# Altium footprint library Resistor^Capacitor^Inductor.PcbLib: 27 footprints (part 2 of 2)
Each footprint in its own frame and in the unit in brackets; x right, y up, seen from the top. Pads: shape width x height; smd on the part's side, far side on the other; paste and mask are expansions set on the pad; w line width, h text height; cw(c..) or ccw(c..) is an arc to the next point about the centre after c.
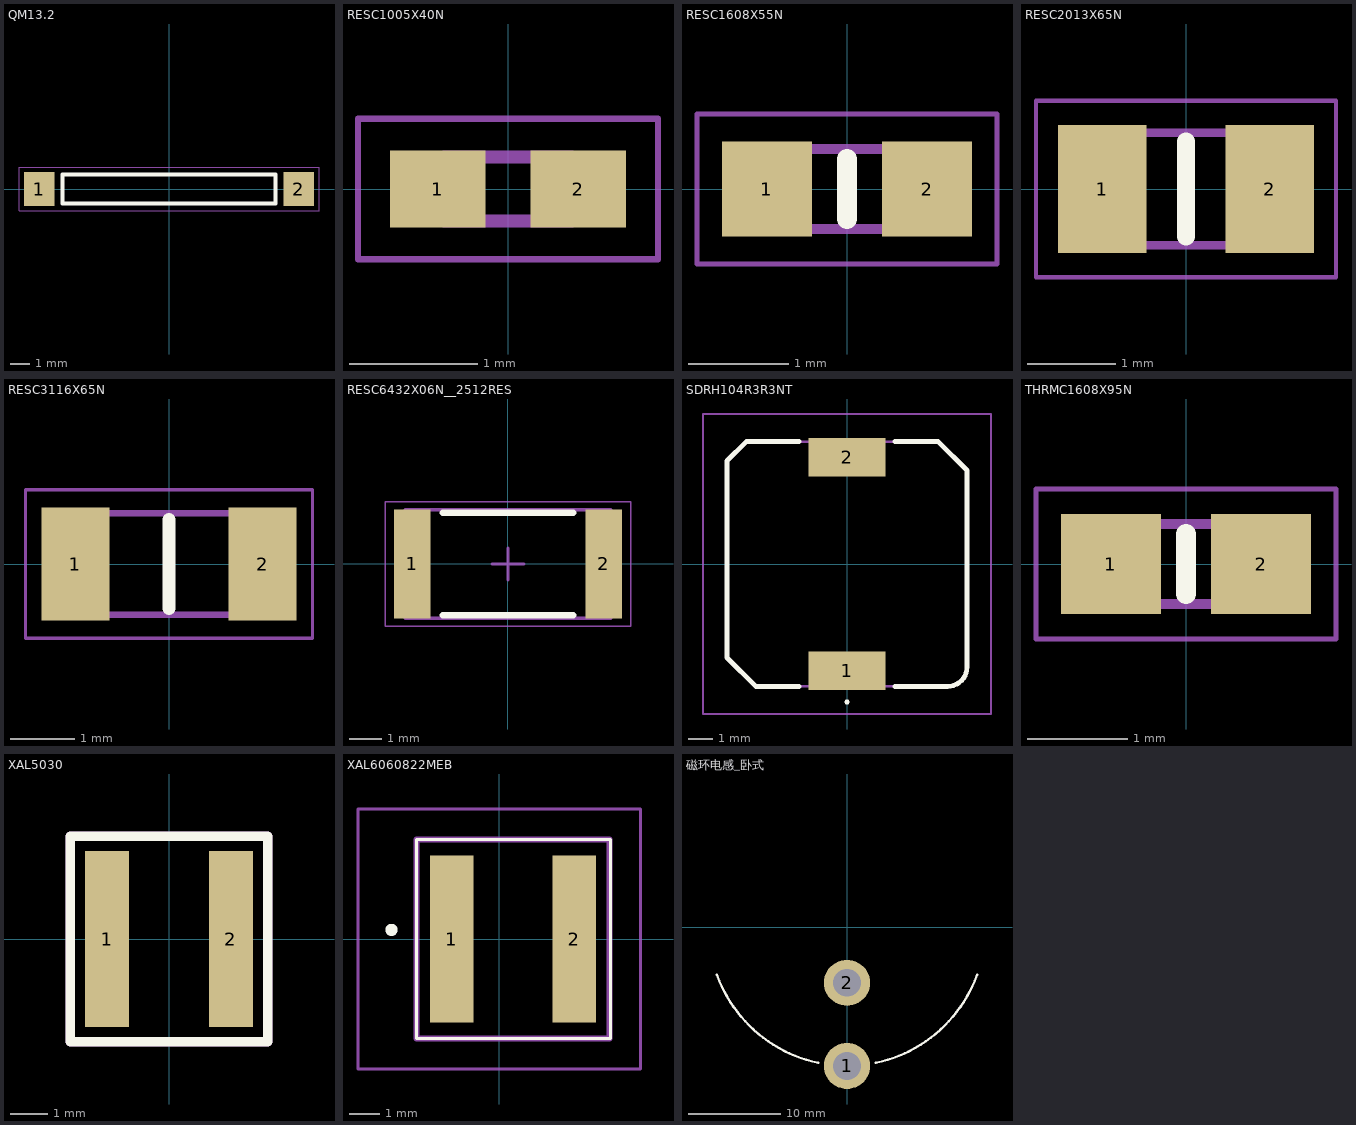
[diagram p1: the footprints below, top view; thin cyan lines are the x and y axes]

## QM13.2 [mm]
pads (2):
  rect 1.6x1.8 smd: 1(-6.8,0) 2(6.8,0)
Top Overlay:
  lines w0.203: -5.588,-0.762 -5.588,0.762 5.588,0.762 5.588,-0.762 -5.588,-0.762
Mechanical 15:
  lines w0.05: -7.874,-1.143 7.874,-1.143 7.874,1.143 -7.874,1.143 -7.874,-1.143

## RESC1005X40N [mm]
pads (2):
  rect 0.75x0.6 smd: 1(-0.55,0) 2(0.55,0)
Mechanical 13:
  lines w0.1: -0.5,-0.25 0.5,-0.25 0.5,0.25 -0.5,0.25 -0.5,-0.25
Mechanical 15:
  lines w0.05: -1.175,-0.55 1.175,-0.55 1.175,0.55 -1.175,0.55 -1.175,-0.55
3D body "0402WGF1002TCE.stp": height 0.4, standoff 0, extent -0.5,-0.25 0.5,0.25

## RESC1608X55N [mm]
pads (2):
  rect 0.9x0.95 smd: 1(-0.8,0) 2(0.8,0)
Top Overlay:
  lines w0.2: 0,-0.3 0,0.3
Mechanical 13:
  lines w0.1: -0.8,-0.4 -0.8,0.4 0.8,0.4 0.8,-0.4 -0.8,-0.4
Mechanical 15:
  lines w0.05: -1.5,-0.75 -1.5,0.75 1.5,0.75 1.5,-0.75 -1.5,-0.75
3D body "0603WAF1002T5E.stp": height 0.55, standoff 0, extent -0.8,-0.4 0.8,0.4

## RESC2013X65N [mm]
pads (2):
  rect 1x1.45 smd: 1(-0.95,0) 2(0.95,0)
Top Overlay:
  lines w0.2: 0,-0.538 0,0.538
Mechanical 13:
  lines w0.1: -1,-0.638 -1,0.638 1,0.638 1,-0.638 -1,-0.638
Mechanical 15:
  lines w0.05: -1.7,-1 -1.7,1 1.7,1 1.7,-1 -1.7,-1
3D body "0805W8J0103T5E.stp": height 0.31, standoff -0.28, extent -1,-0.625 1,0.625

## RESC3116X65N [mm]
pads (2):
  rect 1.05x1.75 smd: 1(-1.45,0) 2(1.45,0)
Top Overlay:
  lines w0.2: 0,-0.688 0,0.688
Mechanical 13:
  lines w0.1: -1.55,-0.788 -1.55,0.788 1.55,0.788 1.55,-0.788 -1.55,-0.788
Mechanical 15:
  lines w0.05: -2.225,-1.15 -2.225,1.15 2.225,1.15 2.225,-1.15 -2.225,-1.15
3D body "1206W4F1002T5E.stp": height 0.65, standoff 0, extent -1.55,-0.787 1.55,0.787

## RESC6432X06N__2512RES [mm] "Chip Resistor, 2-Leads, Body 6.35x3.20mm, IPC Medium Density"
height 0.55
pads (2):
  rect 1.15x3.4 smd: 1(-3,0) 2(3,0)
Top Overlay:
  lines w0.2: -2.05,-1.6 2.05,-1.6 ; -2.05,1.6 2.05,1.6
Mechanical 13:
  lines w0.1: -3.225,-1.7 -3.225,1.7 3.225,1.7 3.225,-1.7 -3.225,-1.7
Mechanical 15:
  lines w0.05: -3.85,-1.95 -3.85,1.95 3.85,1.95 3.85,-1.95 -3.85,-1.95
  lines w0.1: -0.5,0 0.5,0 ; 0,-0.5 0,0.5
3D body "rsmd-2512_l6-4_w3-2_h1-1.stp": height 1.1, standoff 0, extent -3.2,-1.6 3.2,1.6

## SDRH104R3R3NT [mm]
pads (2):
  rect 3.2x1.6 smd: 1(0,-4.45) 2(0,4.45)
Top Overlay:
  lines w0.1: 0,-5.8 ccw(c0,-5.75) 0,-5.7 ccw(c0,-5.75) 0,-5.8
  lines w0.2: -2,-5.1 -3.8,-5.1 -5,-3.9 -5,4.3 -4.2,5.1 -2,5.1 ; 2,-5.1 4.2,-5.1 ccw(c4.2,-4.3) 5,-4.3 5,3.9 3.8,5.1 2,5.1
Mechanical 13:
  lines w0.1: -5,-3.9 -3.8,-5.1 4.2,-5.1 ccw(c4.2,-4.3) 5,-4.3 5,3.9 3.8,5.1 -4.2,5.1 -5,4.3 -5,-0.1 -5,-3.9
Mechanical 15:
  lines w0.1: -6,-6.25 6,-6.25 6,6.25 -6,6.25 -6,-6.25
3D body "SDRH104R-3R3NT.stp": height 4.2, standoff 0, extent -5,-5.1 5,5.1

## THRMC1608X95N [mm]
pads (2):
  rect 1x1 smd: 1(-0.75,0) 2(0.75,0)
Top Overlay:
  lines w0.2: 0,-0.3 0,0.3
Mechanical 13:
  lines w0.1: -0.8,-0.4 0.8,-0.4 0.8,0.4 -0.8,0.4 -0.8,-0.4
Mechanical 15:
  lines w0.05: -1.5,-0.75 1.5,-0.75 1.5,0.75 -1.5,0.75 -1.5,-0.75
3D body "NCP18XH103F03RB.stp": height 0.95, standoff 0, extent -0.8,-0.4 0.8,0.4

## XAL5030 [mm]
pads (2):
  rect 1.18x4.7 smd: 1(-1.655,0) 2(1.655,0)
Top Overlay:
  lines w0.254: -2.64,-2.74 2.64,-2.74 2.64,2.74 -2.64,2.74 -2.64,-2.74
Mechanical 13:
  lines w0.254: -2.64,-2.74 -2.64,2.74 2.64,2.74 2.64,-2.74 -2.64,-2.74
3D body "XAL5050-223MEC.stp": height 5.2, standoff 0, extent -2.64,-2.74 2.64,2.74

## XAL6060822MEB [mm]
pads (2):
  rect 1.43x5.5 smd: 1(-1.57,0) 2(2.47,0)
Top Overlay:
  lines w0.1: -2.73,-3.28 -2.73,3.28 3.65,3.28 3.65,-3.28 -2.73,-3.28
  lines w0.2: -3.55,0.2 cw(c-3.55,0.3) -3.55,0.4 cw(c-3.55,0.3) -3.55,0.2
Mechanical 13:
  lines w0.2: -2.73,-3.28 -2.73,3.28 3.63,3.28 3.63,-3.28 -2.73,-3.28
Mechanical 15:
  lines w0.1: -4.65,-4.28 -4.65,4.28 4.65,4.28 4.65,-4.28 -4.65,-4.28
3D body "XAL6060-223MEC.stp": height 6.11, standoff 0, extent -2.82,-3.38 3.74,3.38

## 磁环电感_卧式 [mm]
pads (2):
  round 5 hole 3: 1(0,-15) 2(0,-6)
Top Overlay:
  lines w0.254: -14.095,-5.13 ccw(c0,0) -3.119,-14.672 ; 3.119,-14.672 ccw(c0,0) 14.095,-5.13